# Altium schematic symbol library Schlib1.SchLib: 13 symbols
Pins are listed as number, name and electrical type; pins without a type are passive.

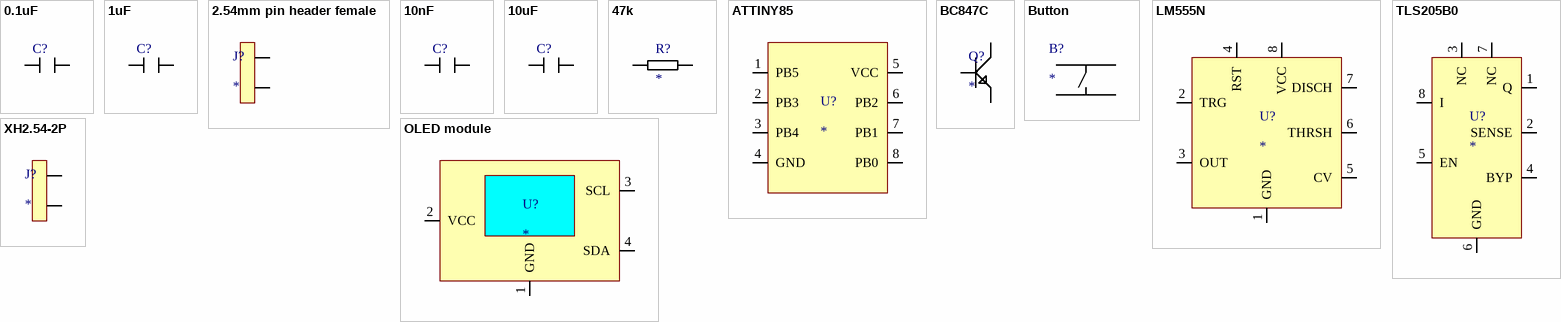
[diagram p0: symbols 0.1uF to XH2.54-2P]

## 0.1uF
designator C?
footprint 0603
pins: 1, 2

## 1uF
designator C?
footprint 0603
pins: 1, 2

## 2.54mm pin header female
designator J?
footprint 2.54mm header
pins: 1, 2

## 10nF
designator C?
footprint 0603
pins: 1, 2

## 10uF
designator C?
footprint 0603
pins: 1, 2

## 47k
designator R?
https://jlcpcb.com/partdetail/Walsin_TechCorp-WR06X4702FTL/C146207
footprint 0603
pins: 1, 2

## ATTINY85
designator U?
https://jlcpcb.com/partdetail/MicrochipTech-ATTINY8520PU/C965497
footprint DIP8
pins: 1 PB5, 2 PB3, 3 PB4, 4 GND, 5 VCC, 6 PB2, 7 PB1, 8 PB0

## BC847C
designator Q?
https://jlcpcb.com/partdetail/Hongjiacheng-BC847C/C7420337
footprint BC847C (https://jlcpcb.com/partdetail/Hongjiacheng-BC847C/C7420337)
pins: 1, 2, 3

## Button
designator B?
https://jlcpcb.com/partdetail/Yiyuan-YTS1R0032CBG00/C3001435
footprint Button (https://jlcpcb.com/partdetail/Yiyuan-YTS1R0032CBG00/C3001435)
pins: 1, 2, 3, 4

## LM555N
designator U?
https://jlcpcb.com/partdetail/Hgsemi-LM555N/C725327
footprint DIP8
pins: 1 GND, 2 TRG, 3 OUT, 4 RST, 5 CV, 6 THRSH, 7 DISCH, 8 VCC

## OLED module
designator U?
footprint OLED module
pins: 1 GND, 2 VCC, 3 SCL, 4 SDA

## TLS205B0
designator U?
https://wmsc.lcsc.com/wmsc/upload/file/pdf/v2/lcsc/2401161412_Infineon-Technologies-TLS205B0EJV50XUMA1_C3747247.pdf
footprint TLS205B0 (https://wmsc.lcsc.com/wmsc/upload/file/pdf/v2/lcsc/2401161412_Infineon-Technologies-TLS205B0EJV50XUMA1_C3747247.pdf)
pins: 1 Q, 2 SENSE, 3 NC, 4 BYP, 5 EN, 6 GND, 7 NC, 8 I

## XH2.54-2P
designator J?
footprint XH2.54-2P
pins: 1, 2